# Altium footprint library Resistors.PcbLib: 40 footprints (part 3 of 3)
Each footprint in its own frame and in the unit in brackets; x right, y up, seen from the top. Pads: shape width x height; smd on the part's side, far side on the other; paste and mask are expansions set on the pad; w line width, h text height; cw(c..) or ccw(c..) is an arc to the next point about the centre after c.
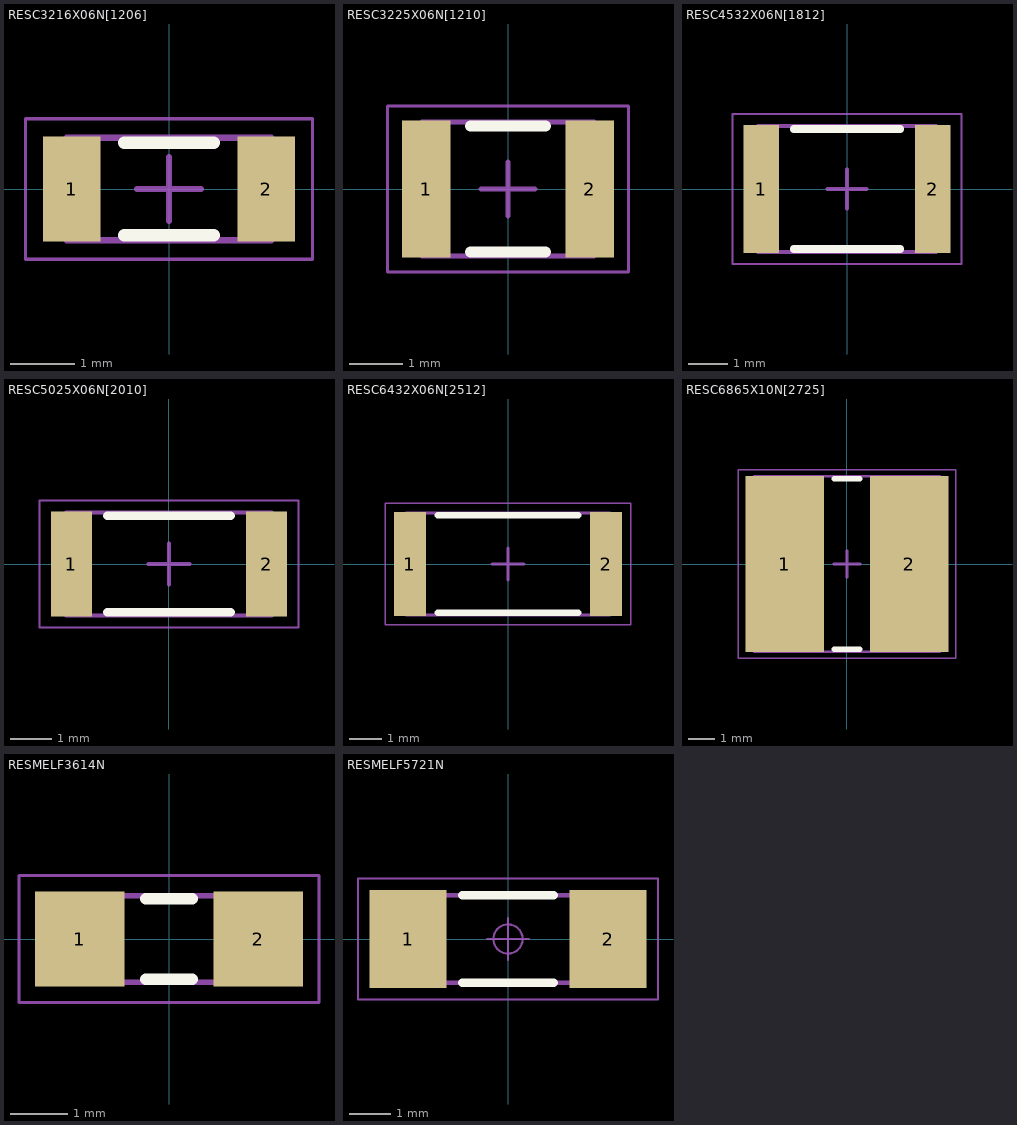
[diagram p2: the footprints below, top view; thin cyan lines are the x and y axes]

## RESC3216X06N[1206] [mm] "Chip Resistor, 2-Leads, Body 3,20x1,60mm, IPC Medium Density"
height 0.55
pads (2):
  rect 0.9x1.65 smd: 1(-1.525,0) 2(1.525,0)
Top Overlay:
  lines w0.2: -0.7,-0.725 0.7,-0.725 ; -0.7,0.725 0.7,0.725
Mechanical 13:
  lines w0.1: -1.6,-0.8 -1.6,0.8 1.6,0.8 1.6,-0.8 -1.6,-0.8
Mechanical 15:
  lines w0.05: -2.25,-1.1 -2.25,1.1 2.25,1.1 2.25,-1.1 -2.25,-1.1
  lines w0.1: -0.5,0 0.5,0 ; 0,-0.5 0,0.5
3D body "RESC3216X06N[1206].step": height 0.55, standoff 0, extent -1.6,-0.8 1.6,0.8

## RESC3225X06N[1210] [mm] "Chip Resistor, 2-Leads, Body 3,20x2,50mm, IPC Medium Density"
height 0.55
pads (2):
  rect 0.9x2.55 smd: 1(-1.525,0) 2(1.525,0)
Top Overlay:
  lines w0.2: -0.7,-1.175 0.7,-1.175 ; -0.7,1.175 0.7,1.175
Mechanical 13:
  lines w0.1: -1.6,-1.25 -1.6,1.25 1.6,1.25 1.6,-1.25 -1.6,-1.25
Mechanical 15:
  lines w0.05: -2.25,-1.55 -2.25,1.55 2.25,1.55 2.25,-1.55 -2.25,-1.55
  lines w0.1: -0.5,0 0.5,0 ; 0,-0.5 0,0.5
3D body "RESC3225X06N[1210].step": height 0.55, standoff 0, extent -1.6,-1.25 1.6,1.25

## RESC4532X06N[1812] [mm] "Chip Resistor, 2-Leads, Body 4,50x3,20mm, IPC Medium Density"
height 0.55
pads (2):
  rect 0.9x3.25 smd: 1(-2.175,0) 2(2.175,0)
Top Overlay:
  lines w0.2: -1.35,-1.525 1.35,-1.525 ; -1.35,1.525 1.35,1.525
Mechanical 13:
  lines w0.1: -2.25,-1.6 -2.25,1.6 2.25,1.6 2.25,-1.6 -2.25,-1.6
Mechanical 15:
  lines w0.05: -2.9,-1.9 -2.9,1.9 2.9,1.9 2.9,-1.9 -2.9,-1.9
  lines w0.1: -0.5,0 0.5,0 ; 0,-0.5 0,0.5
3D body "RESC4532X06N[1812].step": height 0.55, standoff 0, extent -2.25,-1.6 2.25,1.6

## RESC5025X06N[2010] [mm] "Chip Resistor, 2-Leads, Body 5,00x2,50mm, IPC Medium Density"
height 0.55
pads (2):
  rect 1x2.55 smd: 1(-2.375,0) 2(2.375,0)
Top Overlay:
  lines w0.2: -1.5,-1.175 1.5,-1.175 ; -1.5,1.175 1.5,1.175
Mechanical 13:
  lines w0.1: -2.5,-1.25 2.5,-1.25 2.5,1.25 -2.5,1.25 -2.5,-1.25
Mechanical 15:
  lines w0.05: -3.15,-1.55 3.15,-1.55 3.15,1.55 -3.15,1.55 -3.15,-1.55
  lines w0.1: -0.5,0 0.5,0 ; 0,-0.5 0,0.5
3D body "RESC5025X06N[2010].step": height 0.55, standoff 0, extent -2.5,-1.25 2.5,1.25

## RESC6432X06N[2512] [mm] "Chip Resistor, 2-Leads, Body 6,40x3,20mm, IPC Medium Density"
height 0.55
pads (2):
  rect 1x3.25 smd: 1(-3.075,0) 2(3.075,0)
Top Overlay:
  lines w0.2: -2.2,-1.525 2.2,-1.525 ; -2.2,1.525 2.2,1.525
Mechanical 13:
  lines w0.1: -3.2,-1.6 -3.2,1.6 3.2,1.6 3.2,-1.6 -3.2,-1.6
Mechanical 15:
  lines w0.05: -3.85,-1.9 -3.85,1.9 3.85,1.9 3.85,-1.9 -3.85,-1.9
  lines w0.1: -0.5,0 0.5,0 ; 0,-0.5 0,0.5
3D body "RESC6432X06N[2512].step": height 0.55, standoff 0, extent -3.2,-1.6 3.2,1.6

## RESC6865X10N[2725] [mm] "Chip Resistor, 2-Leads, Body 6,81x6,45mm, IPC Medium Density"
height 0.99
pads (2):
  rect 3x6.7 smd: 1(-2.375,0) 2(2.375,0)
Top Overlay:
  lines w0.2: -0.5,-3.25 0.5,-3.25 ; -0.5,3.25 0.5,3.25
Mechanical 13:
  lines w0.1: -3.53,-3.35 -3.53,3.35 3.53,3.35 3.53,-3.35 -3.53,-3.35
Mechanical 15:
  lines w0.05: -4.15,-3.6 -4.15,3.6 4.15,3.6 4.15,-3.6 -4.15,-3.6
  lines w0.1: -0.5,0 0.5,0 ; 0,-0.5 0,0.5
3D body "RESC6865X10N[2725].step": height 0.99, standoff 0, extent -3.53,-3.35 3.53,3.35

## RESMELF3614N [mm] "MELF Resistor, 2-Leads, Body 3.6x1.4mm, IPC Medium Density"
height 1.5
pads (2):
  rect 1.55x1.65 smd: 1(-1.55,0) 2(1.55,0)
Top Overlay:
  lines w0.2: -0.4,-0.7 0.4,-0.7 ; -0.4,0.7 0.4,0.7
Mechanical 14:
  lines w0.1: -1.9,-0.75 1.9,-0.75 1.9,0.75 -1.9,0.75 -1.9,-0.75
Mechanical 15:
  lines w0.05: -2.6,-1.1 2.6,-1.1 2.6,1.1 -2.6,1.1 -2.6,-1.1
3D body "RESMELF3614N.stp": height 1.5, standoff 0, extent -1.9,-0.75 1.9,0.75

## RESMELF5721N [mm] "MELF Resistor, 2-Leads, Body 5.7x2.1mm, IPC Medium Density"
height 2.2
pads (2):
  rect 1.85x2.35 smd: 1(-2.4,0) 2(2.4,0)
Top Overlay:
  lines w0.2: -1.1,-1.05 1.1,-1.05 ; -1.1,1.05 1.1,1.05
Mechanical 14:
  lines w0.1: -2.85,-1.05 -2.85,1.05 2.85,1.05 2.85,-1.05 -2.85,-1.05
Mechanical 15:
  circle w0.05: c0,0 r0.35
  lines w0.05: -0.5,0 0.5,0 ; 0,-0.5 0,0.5 ; -3.6,-1.45 -3.6,1.45 3.6,1.45 3.6,-1.45 -3.6,-1.45
3D body "RESMELF5822N.stp": height 2.3, standoff 0.1, extent -2.9,-1.1 2.9,1.1